# EAGLE library part 74LVC2T45 (library 74LVC2T45)
74LVC2T45 Dual supply translating transceiver; 3-state
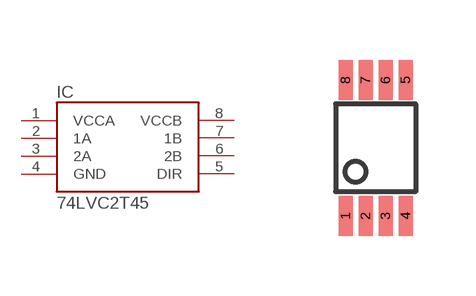
[diagram p0: symbol with the pads of VSSOP8; footprint VSSOP8]

Designator prefix IC

## 74LVC2T45DC  [VSSOP8]
1  VCCA
2  1A
3  2A
4  GND
5  DIR
6  2B
7  1B
8  VCCB

## Footprint VSSOP8 (pad centres in mm)
DC/VSSOP8/SOT765-1
smd 0.35 x 1: 1 -0.75,-1.7; 2 -0.25,-1.7; 3 0.25,-1.7; 4 0.75,-1.7; 5 0.75,1.7; 6 0.25,1.7; 7 -0.25,1.7; 8 -0.75,1.7